# EAGLE library part TOS-3124DMG-9B4 (library eagle_src)
1 0.8''(20.32mm) Anode(Positive electrode) Green 570nm Through Hole LED 7 segment display
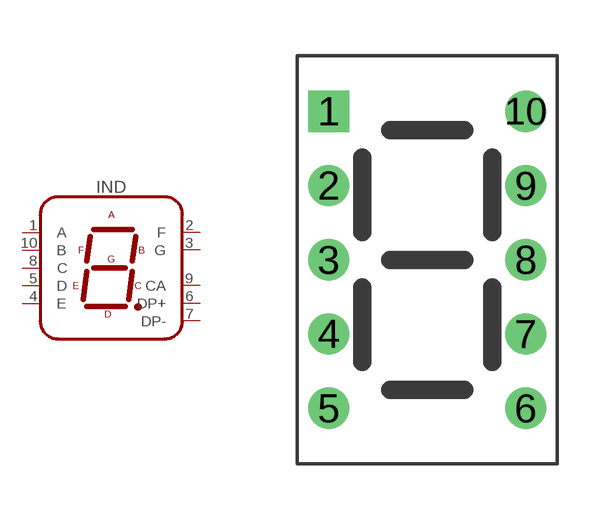
[diagram p4: symbol with the pads of TOS-3124DMG-9B4; footprint TOS-3124DMG-9B4]

Designator prefix IND

## TOS-3124DMG-9B4 (LCSC#: C325438; MANF: OASIS; MANF#: TOS-3124DMG-9B4)  [TOS-3124DMG-9B4]
1  A  pas
2  F  pas
3  G  pas
4  E  pas
5  D  pas
6  DP+  pas
7  DP-  pas
8  C  pas
9  CA  pas
10  B  pas

## Footprint TOS-3124DMG-9B4 (pad centres in mm)
Datasheet <https://datasheet.lcsc.com/szlcsc/1912111437_OASIS-TOS-3124DMG-9B4_C325438.pdf>
drill 0.6 pad 1 square: 1 -2.65,4
drill 0.6 pad 1: 2 -2.65,2; 3 -2.65,0; 4 -2.65,-2; 5 -2.65,-4; 6 2.65,-4; 7 2.65,-2; 8 2.65,0; 9 2.65,2; 10 2.65,4